# EAGLE library part 7-SEG-4-DIG (library 7-SEG-4-DIG)
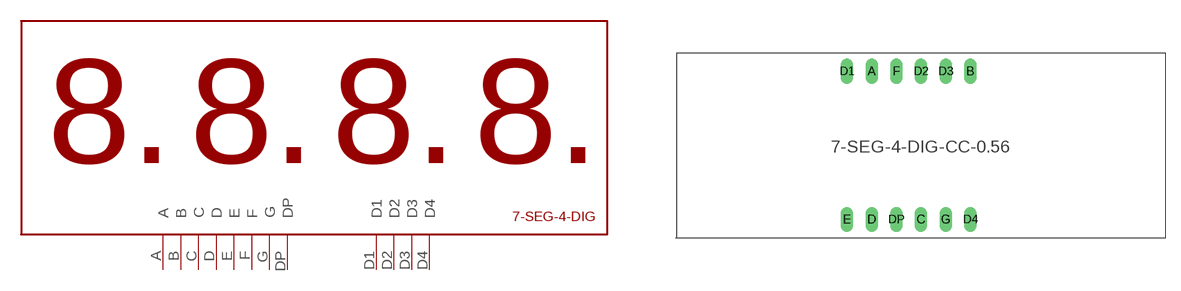
[diagram p0: symbol with the pads of 7-SEG-4-DIG; footprint 7-SEG-4-DIG]

Designator prefix -

## 7-SEG-4-DIG7-SEG-4-DIG  [7-SEG-4-DIG]
A  A
B  B
C  C
D  D
D1  D1
D2  D2
D3  D3
D4  D4
DP  DP
E  E
F  F
G  G

## Footprint 7-SEG-4-DIG (pad centres in mm)
drill 0.8 long: A 20.12,17.12; B 30.28,17.12; C 25.2,1.88; D 20.12,1.88; D1 17.58,17.12; D2 25.2,17.12; D3 27.74,17.12; D4 30.28,1.88; DP 22.66,1.88; E 17.58,1.88; F 22.66,17.12; G 27.74,1.88